# Altium footprint library SiLPA.PcbLib: 19 footprints (part 2 of 2)
Each footprint in its own frame and in the unit in brackets; x right, y up, seen from the top. Pads: shape width x height; smd on the part's side, far side on the other; paste and mask are expansions set on the pad; w line width, h text height; cw(c..) or ccw(c..) is an arc to the next point about the centre after c.
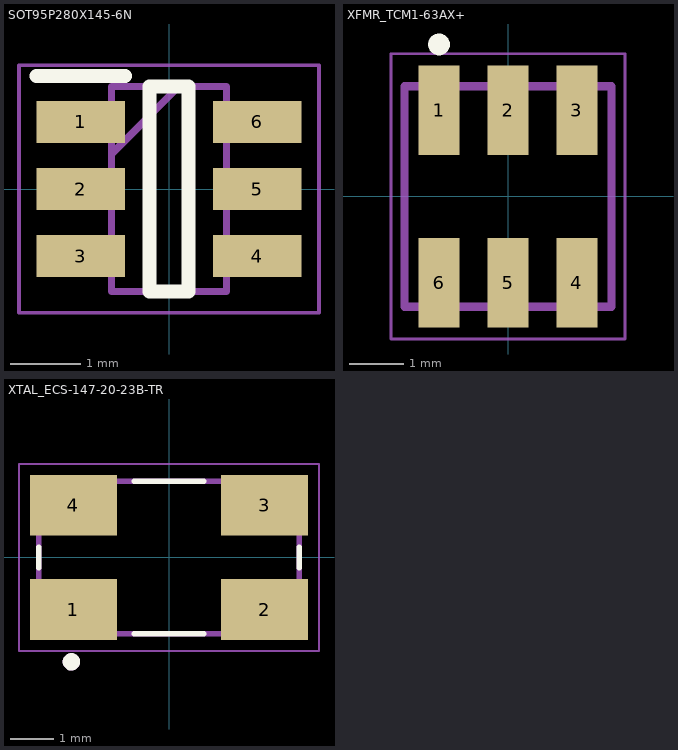
[diagram p1: the footprints below, top view; thin cyan lines are the x and y axes]

## SOT95P280X145-6N [mm]
pads (6):
  rect 1.25x0.6 smd: 1(-1.25,0.95) 2(-1.25,0) 3(-1.25,-0.95) 4(1.25,-0.95) 5(1.25,0) 6(1.25,0.95)
Top Overlay:
  lines w0.2: -1.875,1.6 -0.625,1.6 ; -0.275,-1.45 -0.275,1.45 0.275,1.45 0.275,-1.45 -0.275,-1.45
Mechanical 15:
  lines w0.1: -0.812,0.5 0.138,1.45 ; -0.812,-1.45 -0.812,1.45 0.812,1.45 0.812,-1.45 -0.812,-1.45
Mechanical 20:
  lines w0.05: -2.125,-1.75 -2.125,1.75 2.125,1.75 2.125,-1.75 -2.125,-1.75
3D body "MAX6070AAUT25+T.stp": height 1.45, standoff 0, extent -1.4,-1.45 1.4,1.45

## XFMR_TCM1-63AX+ [mil]
pads (6):
  rect 30x65 smd: 1(-50,62.5) 2(0,62.5) 3(50,62.5) 4(50,-62.5) 5(0,-62.5) 6(-50,-62.5)
Top Overlay:
  circle w7.87: c-50,110.16 r3.94
Mechanical 13:
  lines w6: -75,-79.92 -75,79.92 75,79.92 75,-79.92 -75,-79.92
Mechanical 15:
  lines w1.97: -84.84,-103.35 84.84,-103.35 84.84,103.35 -84.84,103.35 -84.84,-103.35
3D body "TCM1-63AX+.stp": height 160, standoff 0, extent -75,-80 75,80

## XTAL_ECS-147-20-23B-TR [mm]
pads (4):
  rect 2x1.4 smd: 1(-2.2,-1.2) 2(2.2,-1.2) 3(2.2,1.2) 4(-2.2,1.2)
Top Overlay:
  circle w0.2: c-2.246,-2.4 r0.1
  lines w0.127: -3,-0.24 -3,0.24 ; -0.8,-1.75 0.8,-1.75 ; -0.8,1.75 0.8,1.75 ; 3,-0.24 3,0.24
Mechanical 13:
  circle w0.2: c-2.246,-2.4 r0.1
  lines w0.127: -3,-1.75 3,-1.75 3,1.75 -3,1.75 -3,-1.75
Mechanical 15:
  lines w0.05: -3.45,-2.15 3.45,-2.15 3.45,2.15 -3.45,2.15 -3.45,-2.15
3D body "step_temp.STEP": height 1.1, standoff 0, extent -3,-1.75 3,1.75